# Altium schematic symbol library CC0603KRX7R9BB104.SchLib: 1 symbol
Pins are listed as number, name and electrical type; pins without a type are passive.

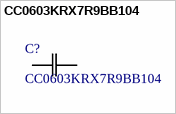
[diagram p0: symbol CC0603KRX7R9BB104]

## CC0603KRX7R9BB104
designator C?
Description; Manufacturer_Name: Yageo; Copyright: Copyright (C) 2025 Ultra Librarian. All rights reserved.; Manufacturer_Part_Number: CC0603KRX7R9BB104
footprint YAG_CC0603_YAG
pins: 1, 2